# Altium schematic symbol library MPU.SchLib: 2 symbols
Pins are listed as number, name and electrical type; pins without a type are passive.

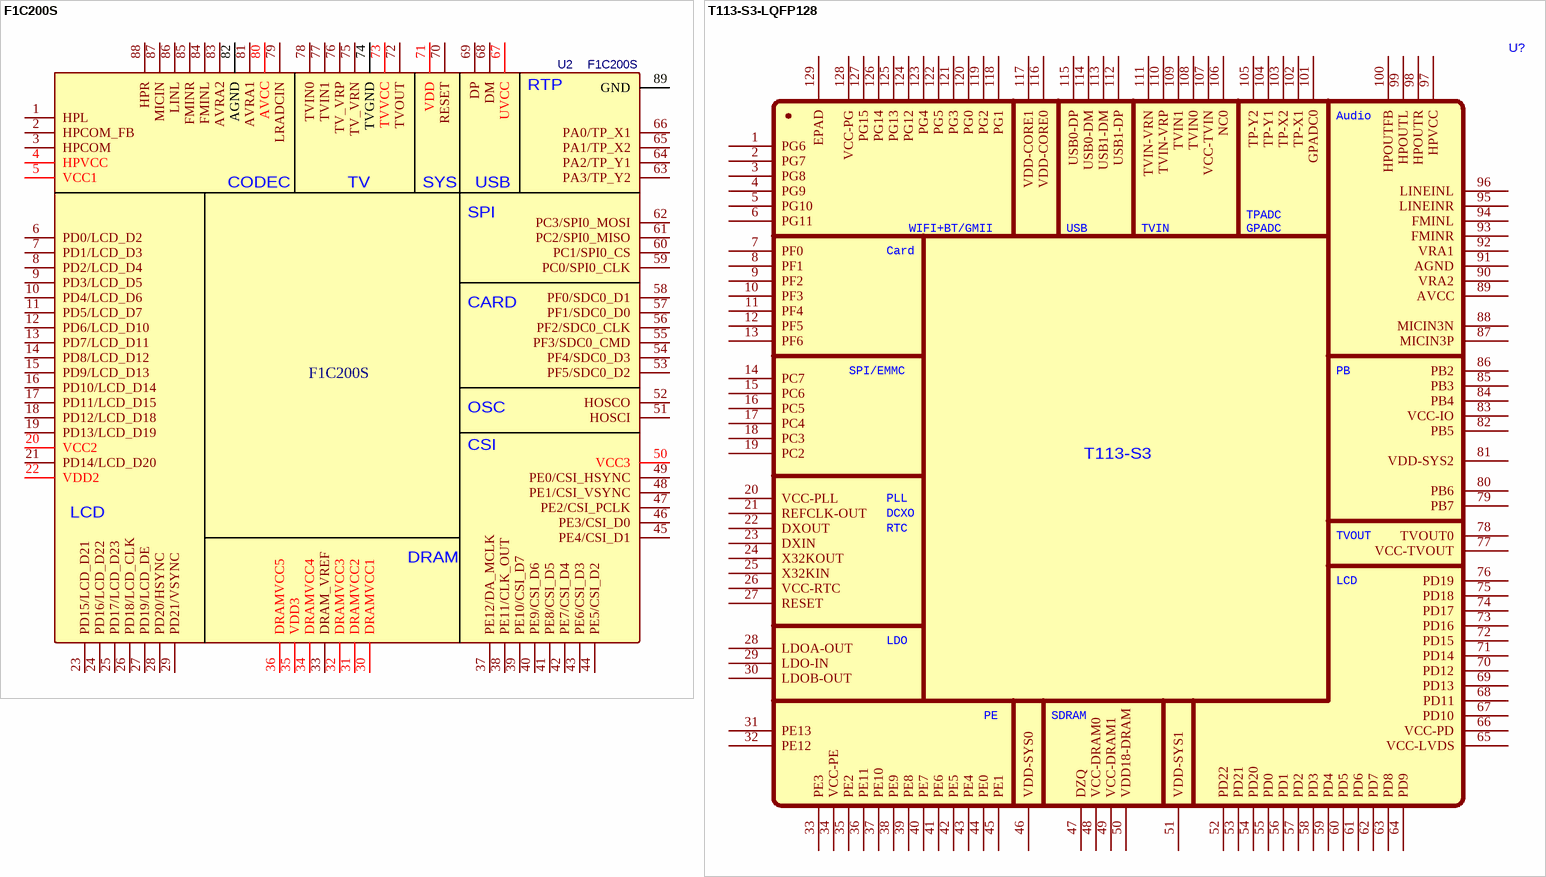
[diagram p0: symbols F1C200S to T113-S3-LQFP128]

## F1C200S
designator U2
BOM_Manufacturer: Allwinner; Contributor: ChrisLan2018; BOM_Supplier: Allwinner; spicePre: U; spiceSymbolName: F1C200S
footprint QFN-88-0.4MM (QFN, 88-Leads, Body 10.00x10.00mm, Pitch 0.40mm, Thermal Pad 6.74x6.74mm, IPC Medium Density)
pins: 1 HPL, 2 HPCOM_FB, 3 HPCOM, 4 HPVCC, 5 VCC1, 6 PD0/LCD_D2, 7 PD1/LCD_D3, 8 PD2/LCD_D4, 9 PD3/LCD_D5, 10 PD4/LCD_D6, 11 PD5/LCD_D7, 12 PD6/LCD_D10, 13 PD7/LCD_D11, 14 PD8/LCD_D12, 15 PD9/LCD_D13, 16 PD10/LCD_D14, 17 PD11/LCD_D15, 18 PD12/LCD_D18, 19 PD13/LCD_D19, 20 VCC2, 21 PD14/LCD_D20, 22 VDD2, 23 PD15/LCD_D21, 24 PD16/LCD_D22, 25 PD17/LCD_D23, 26 PD18/LCD_CLK, 27 PD19/LCD_DE, 28 PD20/HSYNC, 29 PD21/VSYNC, 30 DRAMVCC1, 31 DRAMVCC2, 32 DRAMVCC3, 33 DRAM_VREF, 34 DRAMVCC4, 35 VDD3, 36 DRAMVCC5, 37 PE12/DA_MCLK, 38 PE11/CLK_OUT, 39 PE10/CSI_D7, 40 PE9/CSI_D6, 41 PE8/CSI_D5, 42 PE7/CSI_D4, 43 PE6/CSI_D3, 44 PE5/CSI_D2, 45 PE4/CSI_D1, 46 PE3/CSI_D0, 47 PE2/CSI_PCLK, 48 PE1/CSI_VSYNC, 49 PE0/CSI_HSYNC, 50 VCC3, 51 HOSCI, 52 HOSCO, 53 PF5/SDC0_D2, 54 PF4/SDC0_D3, 55 PF3/SDC0_CMD, 56 PF2/SDC0_CLK, 57 PF1/SDC0_D0, 58 PF0/SDC0_D1, 59 PC0/SPI0_CLK, 60 PC1/SPI0_CS, 61 PC2/SPI0_MISO, 62 PC3/SPI0_MOSI, 63 PA3/TP_Y2, 64 PA2/TP_Y1, 65 PA1/TP_X2, 66 PA0/TP_X1, 67 UVCC, 68 DM, 69 DP, 70 RESET, 71 VDD, 72 TVOUT, 73 TVVCC, 74 TVGND, 75 TV_VRN, 76 TV_VRP, 77 TVIN1, 78 TVIN0, 79 LRADCIN, 80 AVCC, 81 AVRA1, 82 AGND, 83 AVRA2, 84 FMINL, 85 FMINR, 86 LINL, 87 MICIN, 88 HPR, 89 GND
text: RTP; CODEC; TV; SYS; USB; SPI; CARD; OSC; CSI; LCD; DRAM

## T113-S3-LQFP128
designator U?
footprint QFP129P40B1600_1600H160_1
pins: 1 PG6, 2 PG7, 3 PG8, 4 PG9, 5 PG10, 6 PG11, 7 PF0, 8 PF1, 9 PF2, 10 PF3, 11 PF4, 12 PF5, 13 PF6, 14 PC7, 15 PC6, 16 PC5, 17 PC4, 18 PC3, 19 PC2, 20 VCC-PLL, 21 REFCLK-OUT, 22 DXOUT, 23 DXIN, 24 X32KOUT, 25 X32KIN, 26 VCC-RTC, 27 RESET, 28 LDOA-OUT, 29 LDO-IN, 30 LDOB-OUT, 31 PE13, 32 PE12, 33 PE3, 34 VCC-PE, 35 PE2, 36 PE11, 37 PE10, 38 PE9, 39 PE8, 40 PE7, 41 PE6, 42 PE5, 43 PE4, 44 PE0, 45 PE1, 46 VDD-SYS0, 47 DZQ, 48 VCC-DRAM0, 49 VCC-DRAM1, 50 VDD18-DRAM, 51 VDD-SYS1, 52 PD22, 53 PD21, 54 PD20, 55 PD0, 56 PD1, 57 PD2, 58 PD3, 59 PD4, 60 PD5, 61 PD6, 62 PD7, 63 PD8, 64 PD9, 65 VCC-LVDS, 66 VCC-PD, 67 PD10, 68 PD11, 69 PD13, 70 PD12, 71 PD14, 72 PD15, 73 PD16, 74 PD17, 75 PD18, 76 PD19, 77 VCC-TVOUT, 78 TVOUT0, 79 PB7, 80 PB6, 81 VDD-SYS2, 82 PB5, 83 VCC-IO, 84 PB4, 85 PB3, 86 PB2, 87 MICIN3P, 88 MICIN3N, 89 AVCC, 90 VRA2, 91 AGND, 92 VRA1, 93 FMINR, 94 FMINL, 95 LINEINR, 96 LINEINL, 97 HPVCC, 98 HPOUTR, 99 HPOUTL, 100 HPOUTFB, 101 GPADC0, 102 TP-X1, 103 TP-X2, 104 TP-Y1, 105 TP-Y2, 106 NC0, 107 VCC-TVIN, 108 TVIN0, 109 TVIN1, 110 TVIN-VRP, 111 TVIN-VRN, 112 USB1-DP, 113 USB1-DM, 114 USB0-DM, 115 USB0-DP, 116 VDD-CORE0, 117 VDD-CORE1, 118 PG1, 119 PG2, 120 PG0, 121 PG3, 122 PG5, 123 PG4, 124 PG12, 125 PG13, 126 PG14, 127 PG15, 128 VCC-PG, 129 EPAD
text: Audio; WIFI+BT/GMII; USB; TVIN; Card; TPADC / GPADC; SPI/EMMC; PB; T113-S3; PLL; DCXO; RTC; TVOUT; LCD; LDO; PE; SDRAM